# EAGLE library part A5W-K (library clonos)
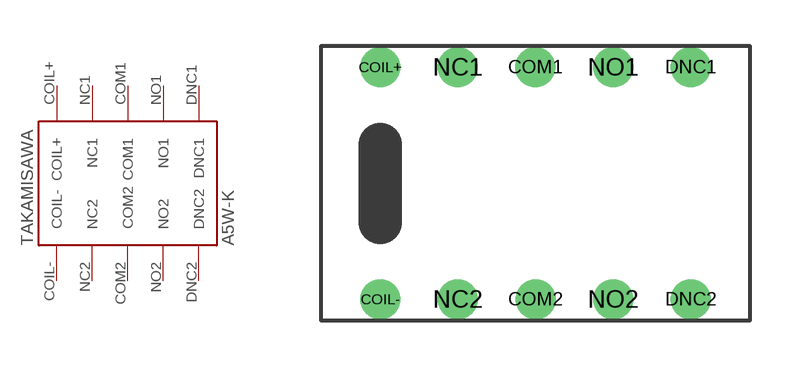
[diagram p1: symbol with the pads of A5W-K; footprint A5W-K]

Designator prefix -

## A5W-K  [A5W-K]
COIL+  COIL+
COIL-  COIL-
COM1  COM1
COM2  COM2
DNC1  DNC1
DNC2  DNC2
NC1  NC1
NC2  NC2
NO1  NO1
NO2  NO2

## Footprint A5W-K (pad centres in mm)
drill 0.8: COIL+ 0,7.62; COIL- 0.002,0.021; COM1 5.08,7.62; COM2 5.082,0.021; DNC1 10.16,7.62; DNC2 10.162,0.021; NC1 2.54,7.62; NC2 2.542,0.021; NO1 7.62,7.62; NO2 7.622,0.021